# Altium footprint library Discrete_t1.PcbLib: 293 footprints (part 17 of 19)
Each footprint in its own frame and in the unit in brackets; x right, y up, seen from the top. Pads: shape width x height; smd on the part's side, far side on the other; paste and mask are expansions set on the pad; w line width, h text height; cw(c..) or ccw(c..) is an arc to the next point about the centre after c.
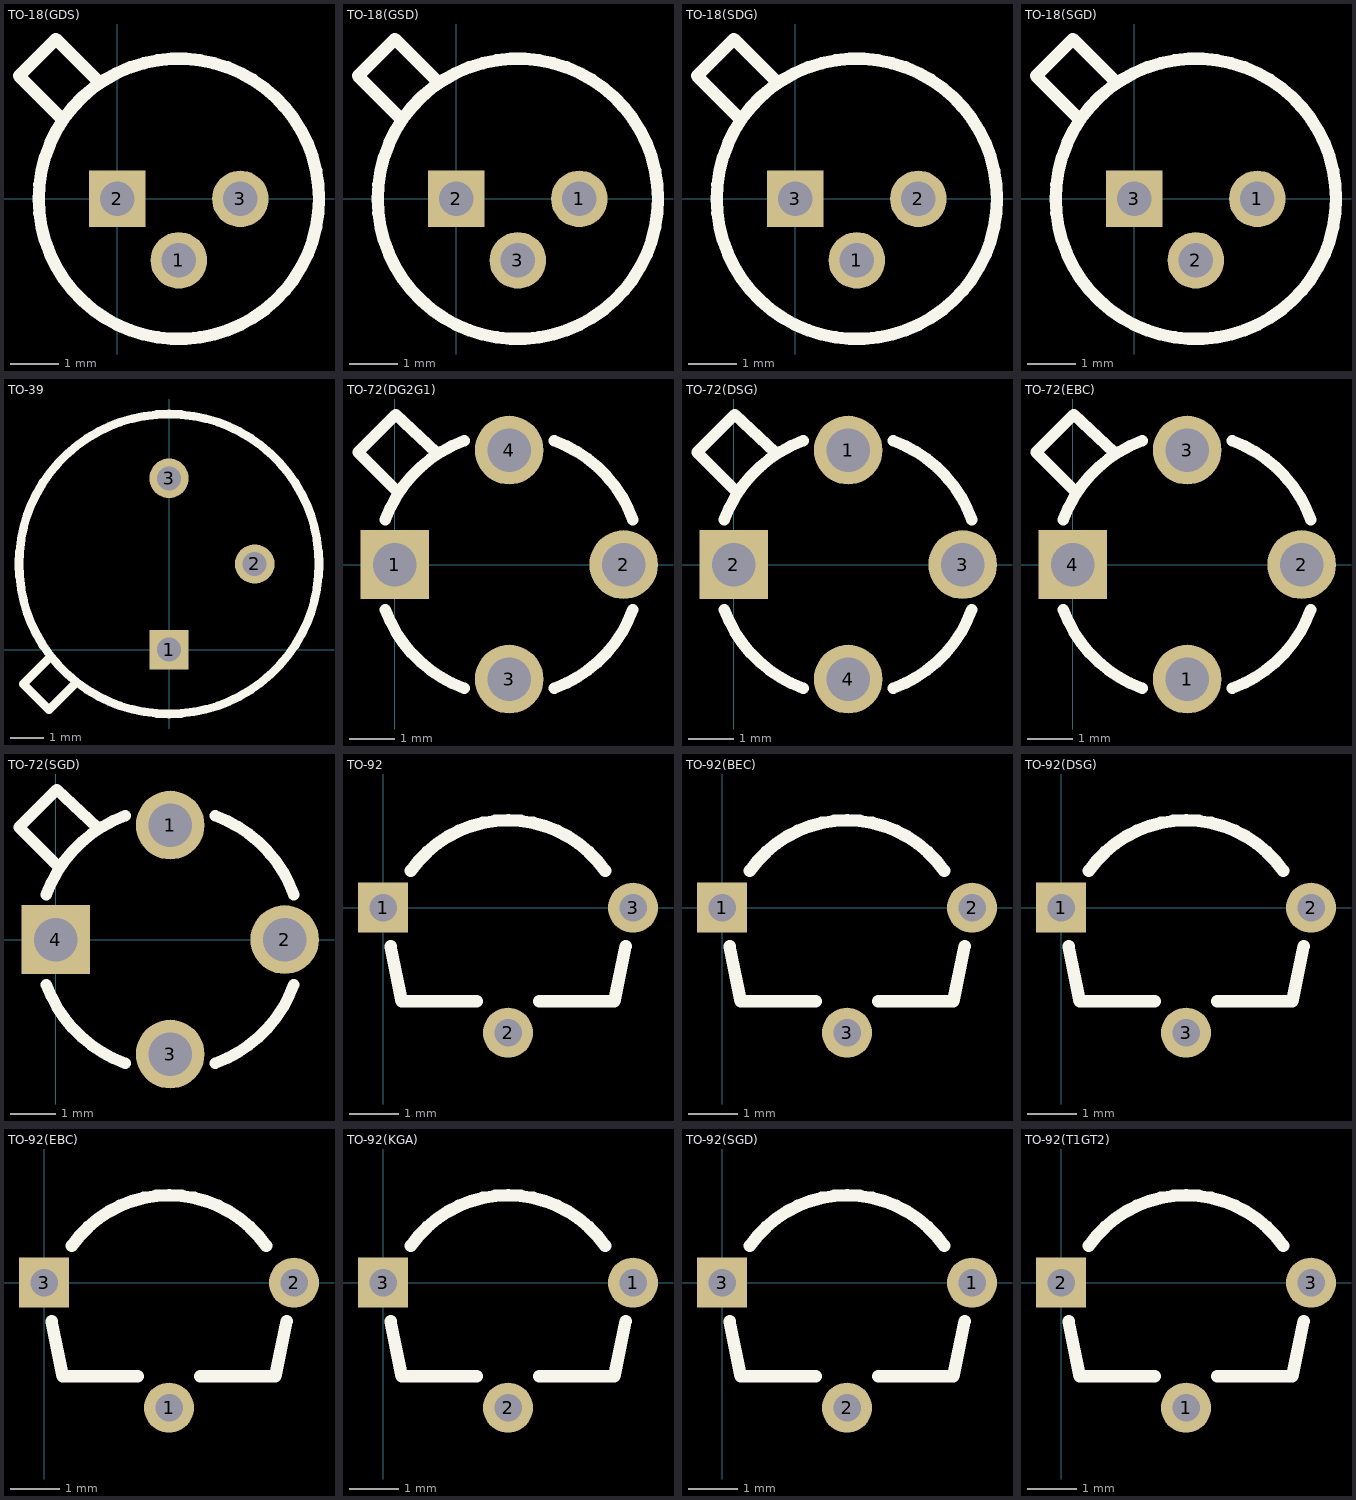
[diagram p16: the footprints below, top view; thin cyan lines are the x and y axes]

## TO-18(GDS) [mil]
pads (3):
  round 46 hole 28: 1(50,-50) 3(100,0)
  rect 46x46 hole 28: 2(0,0)
Top Overlay:
  circle w10: c50,0 r114
  lines w10: -45,65 -80,100 -50,130 -15,95

## TO-18(GSD) [mil]
pads (3):
  round 46 hole 28: 1(100,0) 3(50,-50)
  rect 46x46 hole 28: 2(0,0)
Top Overlay:
  circle w10: c50,0 r114
  lines w10: -45,65 -80,100 -50,130 -15,95

## TO-18(SDG) [mil]
pads (3):
  round 46 hole 28: 1(50,-50) 2(100,0)
  rect 46x46 hole 28: 3(0,0)
Top Overlay:
  circle w10: c50,0 r114
  lines w10: -45,65 -80,100 -50,130 -15,95

## TO-18(SGD) [mil]
pads (3):
  round 46 hole 28: 1(100,0) 2(50,-50)
  rect 46x46 hole 28: 3(0,0)
Top Overlay:
  circle w10: c50,0 r114
  lines w10: -45,65 -80,100 -50,130 -15,95

## TO-39 [mil]
pads (3):
  rect 46x46 hole 28: 1(0,0)
  round 46 hole 28: 2(100,100) 3(0,200)
Top Overlay:
  circle w10: c0,100 r175
  lines w10: -140,-10 -170,-40 -140,-70 -110,-40

## TO-72(DG2G1) [mil]
pads (4):
  rect 60x60 hole 38: 1(0,0)
  round 60 hole 38: 2(200,0) 3(100,-100) 4(100,100)
Top Overlay:
  lines w10: -8.06,-39.33 ccw(c100,0) 60.67,-108.06 ; -8.06,39.33 cw(c100,0) 60.67,108.06 ; 2,64 -32,98 1,131 36,98 ; 139.33,-108.06 ccw(c100,0) 208.06,-39.33 ; 139.33,108.06 cw(c100,0) 208.06,39.33

## TO-72(DSG) [mil]
pads (4):
  round 60 hole 38: 1(100,100) 3(200,0) 4(100,-100)
  rect 60x60 hole 38: 2(0,0)
Top Overlay:
  lines w10: -8.06,-39.33 ccw(c100,0) 60.67,-108.06 ; -8.06,39.33 cw(c100,0) 60.67,108.06 ; 2,64 -32,98 1,131 36,98 ; 139.33,-108.06 ccw(c100,0) 208.06,-39.33 ; 139.33,108.06 cw(c100,0) 208.06,39.33

## TO-72(EBC) [mil]
pads (4):
  round 60 hole 38: 1(100,-100) 2(200,0) 3(100,100)
  rect 60x60 hole 38: 4(0,0)
Top Overlay:
  lines w10: -8.06,-39.33 ccw(c100,0) 60.67,-108.06 ; -8.06,39.33 cw(c100,0) 60.67,108.06 ; 2,64 -32,98 1,131 36,98 ; 139.33,-108.06 ccw(c100,0) 208.06,-39.33 ; 139.33,108.06 cw(c100,0) 208.06,39.33

## TO-72(SGD) [mil]
pads (4):
  round 60 hole 38: 1(100,100) 2(200,0) 3(100,-100)
  rect 60x60 hole 38: 4(0,0)
Top Overlay:
  lines w10: -8.06,-39.33 ccw(c100,0) 60.67,-108.06 ; -8.06,39.33 cw(c100,0) 60.67,108.06 ; 2,64 -32,98 1,131 36,98 ; 139.33,-108.06 ccw(c100,0) 208.06,-39.33 ; 139.33,108.06 cw(c100,0) 208.06,39.33

## TO-92 [mil]
pads (3):
  rect 40x40 hole 22: 1(0,0)
  round 40 hole 22: 2(100,-100) 3(200,0)
Top Overlay:
  lines w10: 6,-31 15,-75 75,-75 ; 22.18,29.49 cw(c100,-25) 177.82,29.49 ; 125,-75 185,-75 194,-31

## TO-92(BEC) [mil]
pads (3):
  rect 40x40 hole 22: 1(0,0)
  round 40 hole 22: 2(200,0) 3(100,-100)
Top Overlay:
  lines w10: 6,-31 15,-75 75,-75 ; 22.18,29.49 cw(c100,-25) 177.82,29.49 ; 125,-75 185,-75 194,-31

## TO-92(DSG) [mil]
pads (3):
  rect 40x40 hole 22: 1(0,0)
  round 40 hole 22: 2(200,0) 3(100,-100)
Top Overlay:
  lines w10: 6,-31 15,-75 75,-75 ; 22.18,29.49 cw(c100,-25) 177.82,29.49 ; 125,-75 185,-75 194,-31

## TO-92(EBC) [mil]
pads (3):
  round 40 hole 22: 1(100,-100) 2(200,0)
  rect 40x40 hole 22: 3(0,0)
Top Overlay:
  lines w10: 6,-31 15,-75 75,-75 ; 22.18,29.49 cw(c100,-25) 177.82,29.49 ; 125,-75 185,-75 194,-31

## TO-92(KGA) [mil]
pads (3):
  round 40 hole 22: 1(200,0) 2(100,-100)
  rect 40x40 hole 22: 3(0,0)
Top Overlay:
  lines w10: 6,-31 15,-75 75,-75 ; 22.18,29.49 cw(c100,-25) 177.82,29.49 ; 125,-75 185,-75 194,-31

## TO-92(SGD) [mil]
pads (3):
  round 40 hole 22: 1(200,0) 2(100,-100)
  rect 40x40 hole 22: 3(0,0)
Top Overlay:
  lines w10: 6,-31 15,-75 75,-75 ; 22.18,29.49 cw(c100,-25) 177.82,29.49 ; 125,-75 185,-75 194,-31

## TO-92(T1GT2) [mil]
pads (3):
  round 40 hole 22: 1(100,-100) 3(200,0)
  rect 40x40 hole 22: 2(0,0)
Top Overlay:
  lines w10: 6,-31 15,-75 75,-75 ; 22.18,29.49 cw(c100,-25) 177.82,29.49 ; 125,-75 185,-75 194,-31